# EAGLE library part MPC5200 (library mpc5200)
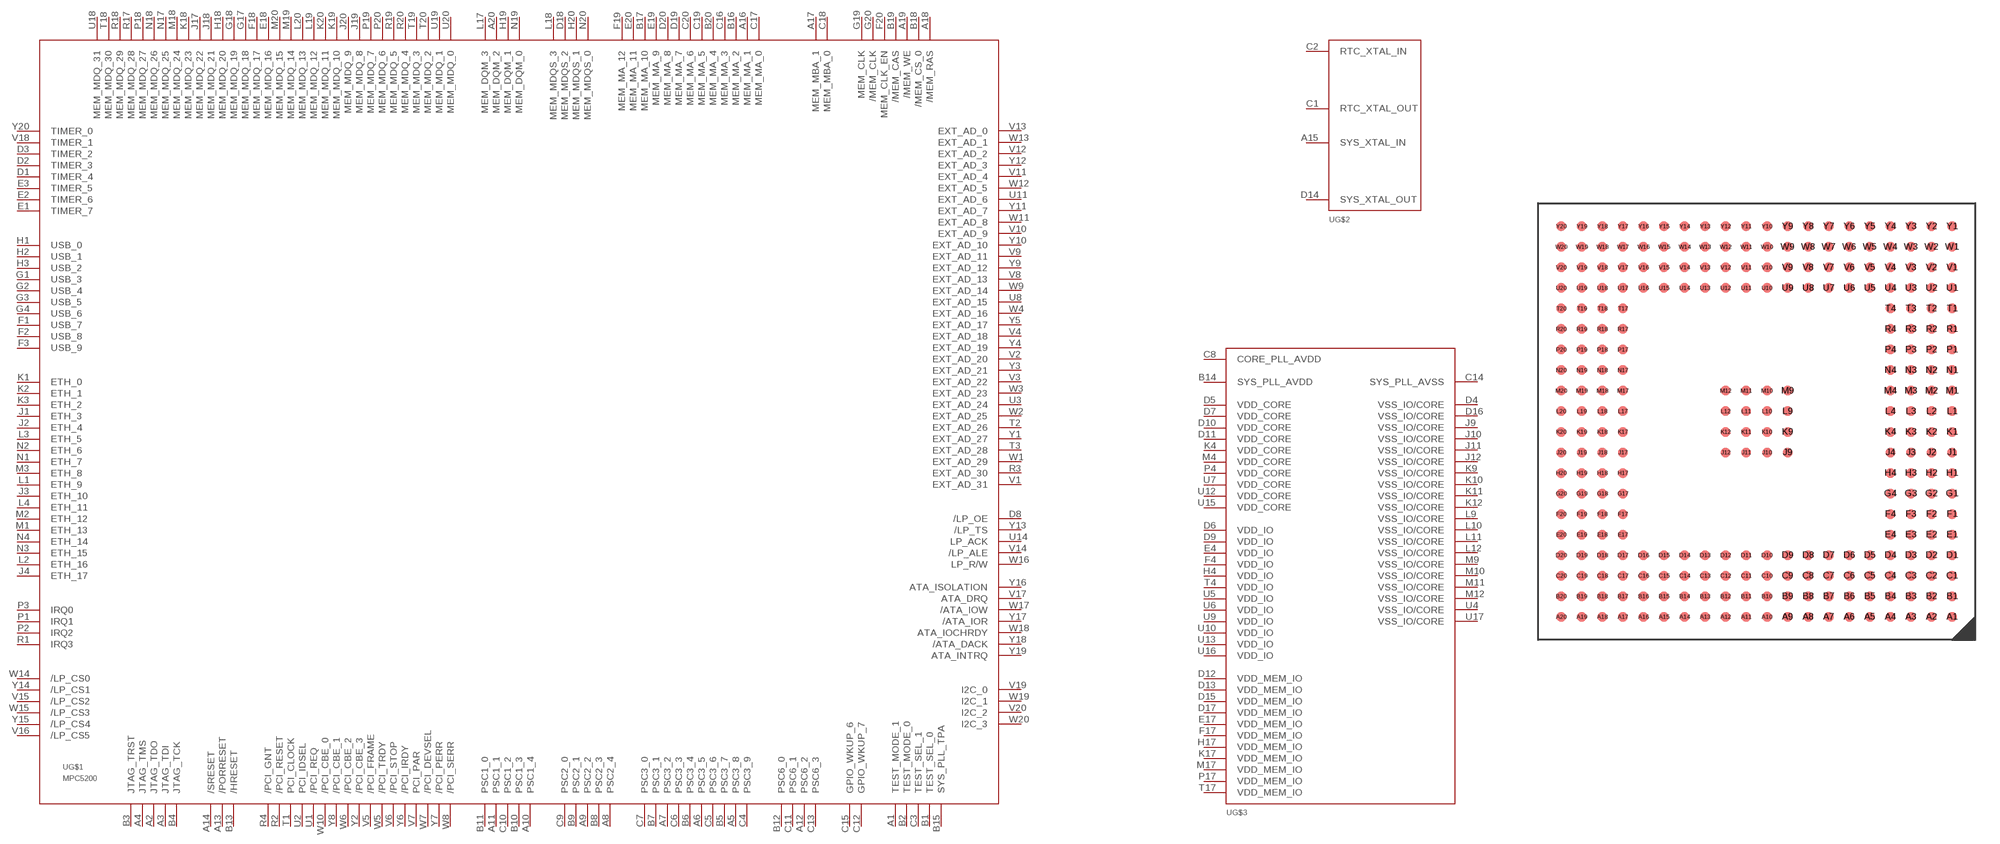
[diagram p0: symbol with the pads of TE-PBGA272; footprint TE-PBGA272]

Designator prefix U; gates G$2=MPC5200CLK G$1=MPC5200 G$3=MPC5200PWR

## MPC5200  [TE-PBGA272]
A1  G$1:TEST_MODE_1
A2  G$1:JTAG_TDO  in
A3  G$1:JTAG_TDI  in
A4  G$1:JTAG_TMS  in
A5  G$1:PSC3_8
A6  G$1:PSC3_5
A7  G$1:PSC3_2
A8  G$1:PSC2_4
A9  G$1:PSC2_2
A10  G$1:PSC1_4
A11  G$1:PSC1_1
A12  G$1:PSC6_2
A13  G$1:/PORRESET  in
A14  G$1:/SRESET  in
A15  G$2:SYS_XTAL_IN  in
A16  G$1:MEM_MA_1
A17  G$1:MEM_MBA_1
A18  G$1:/MEM_RAS
A19  G$1:/MEM_WE
A20  G$1:MEM_DQM_2
B1  G$1:TEST_SEL_0
B2  G$1:TEST_MODE_0
B3  G$1:JTAG_TRST  in
B4  G$1:JTAG_TCK  in
B5  G$1:PSC3_7
B6  G$1:PSC3_4
B7  G$1:PSC3_1
B8  G$1:PSC2_3
B9  G$1:PSC2_1
B10  G$1:PSC1_3
B11  G$1:PSC1_0
B12  G$1:PSC6_0
B13  G$1:/HRESET  in
B14  G$3:SYS_PLL_AVDD  pwr
B15  G$1:SYS_PLL_TPA  in
B16  G$1:MEM_MA_2
B17  G$1:MEM_MA_10
B18  G$1:/MEM_CS_0
B19  G$1:/MEM_CAS
B20  G$1:MEM_MA_4
C1  G$2:RTC_XTAL_OUT  in
C2  G$2:RTC_XTAL_IN  in
C3  G$1:TEST_SEL_1
C4  G$1:PSC3_9
C5  G$1:PSC3_6
C6  G$1:PSC3_3
C7  G$1:PSC3_0
C8  G$3:CORE_PLL_AVDD  pwr
C9  G$1:PSC2_0
C10  G$1:PSC1_2
C11  G$1:PSC6_1
C12  G$1:GPIO_WKUP_7
C13  G$1:PSC6_3
C14  G$3:SYS_PLL_AVSS  pwr
C15  G$1:GPIO_WKUP_6
C16  G$1:MEM_MA_3
C17  G$1:MEM_MA_0
C18  G$1:MEM_MBA_0
C19  G$1:MEM_MA_5
C20  G$1:MEM_MA_6
D1  G$1:TIMER_4
D2  G$1:TIMER_3
D3  G$1:TIMER_2
D4  G$3:VSS_IO/CORE  pwr
D5  G$3:VDD_CORE  pwr
D6  G$3:VDD_IO  pwr
D7  G$3:VDD_CORE  pwr
D8  G$1:/LP_OE
D9  G$3:VDD_IO  pwr
D10  G$3:VDD_CORE  pwr
D11  G$3:VDD_CORE  pwr
D12  G$3:VDD_MEM_IO  pwr
D13  G$3:VDD_MEM_IO  pwr
D14  G$2:SYS_XTAL_OUT  in
D15  G$3:VDD_MEM_IO  pwr
D16  G$3:VSS_IO/CORE  pwr
D17  G$3:VDD_MEM_IO  pwr
D18  G$1:MEM_MDQS_2
D19  G$1:MEM_MA_7
D20  G$1:MEM_MA_8
E1  G$1:TIMER_7
E2  G$1:TIMER_6
E3  G$1:TIMER_5
E4  G$3:VDD_IO  pwr
E17  G$3:VDD_MEM_IO  pwr
E18  G$1:MEM_MDQ_16
E19  G$1:MEM_MA_9
E20  G$1:MEM_MA_11
F1  G$1:USB_7
F2  G$1:USB_8
F3  G$1:USB_9
F4  G$3:VDD_IO  pwr
F17  G$3:VDD_MEM_IO  pwr
F18  G$1:MEM_MDQ_17
F19  G$1:MEM_MA_12
F20  G$1:MEM_CLK_EN
G1  G$1:USB_3
G2  G$1:USB_4
G3  G$1:USB_5
G4  G$1:USB_6
G17  G$1:MEM_MDQ_18
G18  G$1:MEM_MDQ_19
G19  G$1:MEM_CLK
G20  G$1:/MEM_CLK
H1  G$1:USB_0
H2  G$1:USB_1
H3  G$1:USB_2
H4  G$3:VDD_IO  pwr
H17  G$3:VDD_MEM_IO  pwr
H18  G$1:MEM_MDQ_20
H19  G$1:MEM_DQM_1
H20  G$1:MEM_MDQS_1
J1  G$1:ETH_3
J2  G$1:ETH_4
J3  G$1:ETH_10
J4  G$1:ETH_17
J9  G$3:VSS_IO/CORE  pwr
J10  G$3:VSS_IO/CORE  pwr
J11  G$3:VSS_IO/CORE  pwr
J12  G$3:VSS_IO/CORE  pwr
J17  G$1:MEM_MDQ_22
J18  G$1:MEM_MDQ_21
J19  G$1:MEM_MDQ_8
J20  G$1:MEM_MDQ_9
K1  G$1:ETH_0
K2  G$1:ETH_1
K3  G$1:ETH_2
K4  G$3:VDD_CORE  pwr
K9  G$3:VSS_IO/CORE  pwr
K10  G$3:VSS_IO/CORE  pwr
K11  G$3:VSS_IO/CORE  pwr
K12  G$3:VSS_IO/CORE  pwr
K17  G$3:VDD_MEM_IO  pwr
K18  G$1:MEM_MDQ_23
K19  G$1:MEM_MDQ_10
K20  G$1:MEM_MDQ_11
L1  G$1:ETH_9
L2  G$1:ETH_16
L3  G$1:ETH_5
L4  G$1:ETH_11
L9  G$3:VSS_IO/CORE  pwr
L10  G$3:VSS_IO/CORE  pwr
L11  G$3:VSS_IO/CORE  pwr
L12  G$3:VSS_IO/CORE  pwr
L17  G$1:MEM_DQM_3
L18  G$1:MEM_MDQS_3
L19  G$1:MEM_MDQ_12
L20  G$1:MEM_MDQ_13
M1  G$1:ETH_13
M2  G$1:ETH_12
M3  G$1:ETH_8
M4  G$3:VDD_CORE  pwr
M9  G$3:VSS_IO/CORE  pwr
M10  G$3:VSS_IO/CORE  pwr
M11  G$3:VSS_IO/CORE  pwr
M12  G$3:VSS_IO/CORE  pwr
M17  G$3:VDD_MEM_IO  pwr
M18  G$1:MEM_MDQ_24
M19  G$1:MEM_MDQ_14
M20  G$1:MEM_MDQ_15
N1  G$1:ETH_7
N2  G$1:ETH_6
N3  G$1:ETH_15
N4  G$1:ETH_14
N17  G$1:MEM_MDQ_25
N18  G$1:MEM_MDQ_26
N19  G$1:MEM_DQM_0
N20  G$1:MEM_MDQS_0
P1  G$1:IRQ1
P2  G$1:IRQ2
P3  G$1:IRQ0
P4  G$3:VDD_CORE  pwr
P17  G$3:VDD_MEM_IO  pwr
P18  G$1:MEM_MDQ_27
P19  G$1:MEM_MDQ_7
P20  G$1:MEM_MDQ_6
R1  G$1:IRQ3
R2  G$1:/PCI_RESET
R3  G$1:EXT_AD_30
R4  G$1:/PCI_GNT
R17  G$1:MEM_MDQ_28
R18  G$1:MEM_MDQ_29
R19  G$1:MEM_MDQ_5
R20  G$1:MEM_MDQ_4
T1  G$1:PCI_CLOCK
T2  G$1:EXT_AD_26
T3  G$1:EXT_AD_28
T4  G$3:VDD_IO  pwr
T17  G$3:VDD_MEM_IO  pwr
T18  G$1:MEM_MDQ_30
T19  G$1:MEM_MDQ_3
T20  G$1:MEM_MDQ_2
U1  G$1:/PCI_REQ
U2  G$1:PCI_IDSEL
U3  G$1:EXT_AD_24
U4  G$3:VSS_IO/CORE  pwr
U5  G$3:VDD_IO  pwr
U6  G$3:VDD_IO  pwr
U7  G$3:VDD_CORE  pwr
U8  G$1:EXT_AD_15
U9  G$3:VDD_IO  pwr
U10  G$3:VDD_IO  pwr
U11  G$1:EXT_AD_6
U12  G$3:VDD_CORE  pwr
U13  G$3:VDD_IO  pwr
U14  G$1:LP_ACK
U15  G$3:VDD_CORE  pwr
U16  G$3:VDD_IO  pwr
U17  G$3:VSS_IO/CORE  pwr
U18  G$1:MEM_MDQ_31
U19  G$1:MEM_MDQ_1
U20  G$1:MEM_MDQ_0
V1  G$1:EXT_AD_31
V2  G$1:EXT_AD_20
V3  G$1:EXT_AD_22
V4  G$1:EXT_AD_18
V5  G$1:/PCI_FRAME
V6  G$1:/PCI_STOP
V7  G$1:PCI_PAR
V8  G$1:EXT_AD_13
V9  G$1:EXT_AD_11
V10  G$1:EXT_AD_9
V11  G$1:EXT_AD_4
V12  G$1:EXT_AD_2
V13  G$1:EXT_AD_0
V14  G$1:/LP_ALE
V15  G$1:/LP_CS2
V16  G$1:/LP_CS5
V17  G$1:ATA_DRQ
V18  G$1:TIMER_1
V19  G$1:I2C_0
V20  G$1:I2C_2
W1  G$1:EXT_AD_29
W2  G$1:EXT_AD_25
W3  G$1:EXT_AD_23
W4  G$1:EXT_AD_16
W5  G$1:/PCI_TRDY
W6  G$1:/PCI_CBE_2
W7  G$1:/PCI_DEVSEL
W8  G$1:/PCI_SERR
W9  G$1:EXT_AD_14
W10  G$1:/PCI_CBE_0
W11  G$1:EXT_AD_8
W12  G$1:EXT_AD_5
W13  G$1:EXT_AD_1
W14  G$1:/LP_CS0
W15  G$1:/LP_CS3
W16  G$1:LP_R/W
W17  G$1:/ATA_IOW
W18  G$1:ATA_IOCHRDY
W19  G$1:I2C_1
W20  G$1:I2C_3
Y1  G$1:EXT_AD_27
Y2  G$1:/PCI_CBE_3
Y3  G$1:EXT_AD_21
Y4  G$1:EXT_AD_19
Y5  G$1:EXT_AD_17
Y6  G$1:/PCI_IRDY
Y7  G$1:/PCI_PERR
Y8  G$1:/PCI_CBE_1
Y9  G$1:EXT_AD_12
Y10  G$1:EXT_AD_10
Y11  G$1:EXT_AD_7
Y12  G$1:EXT_AD_3
Y13  G$1:/LP_TS
Y14  G$1:/LP_CS1
Y15  G$1:/LP_CS4
Y16  G$1:ATA_ISOLATION
Y17  G$1:/ATA_IOR
Y18  G$1:/ATA_DACK
Y19  G$1:ATA_INTRQ
Y20  G$1:TIMER_0

## Footprint TE-PBGA272 (pad centres in mm)
TE-PBGA272 BGA127P20X20-400 with 272 balls populated 1.27mm ball pitch, place on 0.635mm grid
smd 0.6 x 0.6: A1 0,0; A2 -1.27,0; A3 -2.54,0; A4 -3.81,0; A5 -5.08,0; A6 -6.35,0; A7 -7.62,0; A8 -8.89,0; A9 -10.16,0; A10 -11.43,0; A11 -12.7,0; A12 -13.97,0; A13 -15.24,0; A14 -16.51,0; A15 -17.78,0; A16 -19.05,0; A17 -20.32,0; A18 -21.59,0; A19 -22.86,0; A20 -24.13,0; B1 0,1.27; B2 -1.27,1.27; B3 -2.54,1.27; B4 -3.81,1.27; B5 -5.08,1.27; B6 -6.35,1.27; B7 -7.62,1.27; B8 -8.89,1.27; B9 -10.16,1.27; B10 -11.43,1.27; B11 -12.7,1.27; B12 -13.97,1.27; B13 -15.24,1.27; B14 -16.51,1.27; B15 -17.78,1.27; B16 -19.05,1.27; B17 -20.32,1.27; B18 -21.59,1.27; B19 -22.86,1.27; B20 -24.13,1.27; C1 0,2.54; C2 -1.27,2.54; C3 -2.54,2.54; C4 -3.81,2.54; C5 -5.08,2.54; C6 -6.35,2.54; C7 -7.62,2.54; C8 -8.89,2.54; C9 -10.16,2.54; C10 -11.43,2.54; C11 -12.7,2.54; C12 -13.97,2.54; C13 -15.24,2.54; C14 -16.51,2.54; C15 -17.78,2.54; C16 -19.05,2.54; C17 -20.32,2.54; C18 -21.59,2.54; C19 -22.86,2.54; C20 -24.13,2.54; D1 0,3.81; D2 -1.27,3.81; D3 -2.54,3.81; D4 -3.81,3.81; D5 -5.08,3.81; D6 -6.35,3.81; D7 -7.62,3.81; D8 -8.89,3.81; D9 -10.16,3.81; D10 -11.43,3.81; D11 -12.7,3.81; D12 -13.97,3.81; D13 -15.24,3.81; D14 -16.51,3.81; D15 -17.78,3.81; D16 -19.05,3.81; D17 -20.32,3.81; D18 -21.59,3.81; D19 -22.86,3.81; D20 -24.13,3.81; E1 0,5.08; E2 -1.27,5.08; E3 -2.54,5.08; E4 -3.81,5.08; E17 -20.32,5.08; E18 -21.59,5.08; E19 -22.86,5.08; E20 -24.13,5.08; F1 0,6.35; F2 -1.27,6.35; F3 -2.54,6.35; F4 -3.81,6.35; F17 -20.32,6.35; F18 -21.59,6.35; F19 -22.86,6.35; F20 -24.13,6.35; G1 0,7.62; G2 -1.27,7.62; G3 -2.54,7.62; G4 -3.81,7.62; G17 -20.32,7.62; G18 -21.59,7.62; G19 -22.86,7.62; G20 -24.13,7.62; H1 0,8.89; H2 -1.27,8.89; H3 -2.54,8.89; H4 -3.81,8.89; H17 -20.32,8.89; H18 -21.59,8.89; H19 -22.86,8.89; H20 -24.13,8.89; J1 0,10.16; J2 -1.27,10.16; J3 -2.54,10.16; J4 -3.81,10.16; J9 -10.16,10.16; J10 -11.43,10.16; J11 -12.7,10.16; J12 -13.97,10.16; J17 -20.32,10.16; J18 -21.59,10.16; J19 -22.86,10.16; J20 -24.13,10.16; K1 0,11.43; K2 -1.27,11.43; K3 -2.54,11.43; K4 -3.81,11.43; K9 -10.16,11.43; K10 -11.43,11.43; K11 -12.7,11.43; K12 -13.97,11.43; K17 -20.32,11.43; K18 -21.59,11.43; K19 -22.86,11.43; K20 -24.13,11.43; L1 0,12.7; L2 -1.27,12.7; L3 -2.54,12.7; L4 -3.81,12.7; L9 -10.16,12.7; L10 -11.43,12.7; L11 -12.7,12.7; L12 -13.97,12.7; L17 -20.32,12.7; L18 -21.59,12.7; L19 -22.86,12.7; L20 -24.13,12.7; M1 0,13.97; M2 -1.27,13.97; M3 -2.54,13.97; M4 -3.81,13.97; M9 -10.16,13.97; M10 -11.43,13.97; M11 -12.7,13.97; M12 -13.97,13.97; M17 -20.32,13.97; M18 -21.59,13.97; M19 -22.86,13.97; M20 -24.13,13.97; N1 0,15.24; N2 -1.27,15.24; N3 -2.54,15.24; N4 -3.81,15.24; N17 -20.32,15.24; N18 -21.59,15.24; N19 -22.86,15.24; N20 -24.13,15.24; P1 0,16.51; P2 -1.27,16.51; P3 -2.54,16.51; P4 -3.81,16.51; P17 -20.32,16.51; P18 -21.59,16.51; P19 -22.86,16.51; P20 -24.13,16.51; R1 0,17.78; R2 -1.27,17.78; R3 -2.54,17.78; R4 -3.81,17.78; R17 -20.32,17.78; R18 -21.59,17.78; R19 -22.86,17.78; R20 -24.13,17.78; T1 0,19.05; T2 -1.27,19.05; T3 -2.54,19.05; T4 -3.81,19.05; T17 -20.32,19.05; T18 -21.59,19.05; T19 -22.86,19.05; T20 -24.13,19.05; U1 0,20.32; U2 -1.27,20.32; U3 -2.54,20.32; U4 -3.81,20.32; U5 -5.08,20.32; U6 -6.35,20.32; U7 -7.62,20.32; U8 -8.89,20.32; U9 -10.16,20.32; U10 -11.43,20.32; U11 -12.7,20.32; U12 -13.97,20.32; U13 -15.24,20.32; U14 -16.51,20.32; U15 -17.78,20.32; U16 -19.05,20.32; U17 -20.32,20.32; U18 -21.59,20.32; U19 -22.86,20.32; U20 -24.13,20.32; V1 0,21.59; V2 -1.27,21.59; V3 -2.54,21.59; V4 -3.81,21.59; V5 -5.08,21.59; V6 -6.35,21.59; V7 -7.62,21.59; V8 -8.89,21.59; V9 -10.16,21.59; V10 -11.43,21.59; V11 -12.7,21.59; V12 -13.97,21.59; V13 -15.24,21.59; V14 -16.51,21.59; V15 -17.78,21.59; V16 -19.05,21.59; V17 -20.32,21.59; V18 -21.59,21.59; V19 -22.86,21.59; V20 -24.13,21.59; W1 0,22.86; W2 -1.27,22.86; W3 -2.54,22.86; W4 -3.81,22.86; W5 -5.08,22.86; W6 -6.35,22.86; W7 -7.62,22.86; W8 -8.89,22.86; W9 -10.16,22.86; W10 -11.43,22.86; W11 -12.7,22.86; W12 -13.97,22.86; W13 -15.24,22.86; W14 -16.51,22.86; W15 -17.78,22.86; W16 -19.05,22.86; W17 -20.32,22.86; W18 -21.59,22.86; W19 -22.86,22.86; W20 -24.13,22.86; Y1 0,24.13; Y2 -1.27,24.13; Y3 -2.54,24.13; Y4 -3.81,24.13; Y5 -5.08,24.13; Y6 -6.35,24.13; Y7 -7.62,24.13; Y8 -8.89,24.13; Y9 -10.16,24.13; Y10 -11.43,24.13; Y11 -12.7,24.13; Y12 -13.97,24.13; Y13 -15.24,24.13; Y14 -16.51,24.13; Y15 -17.78,24.13; Y16 -19.05,24.13; Y17 -20.32,24.13; Y18 -21.59,24.13; Y19 -22.86,24.13; Y20 -24.13,24.13